# EAGLE library part L6234PD (library L6234)
The L6234 is a triple half bridge to drive a brushless DC motor
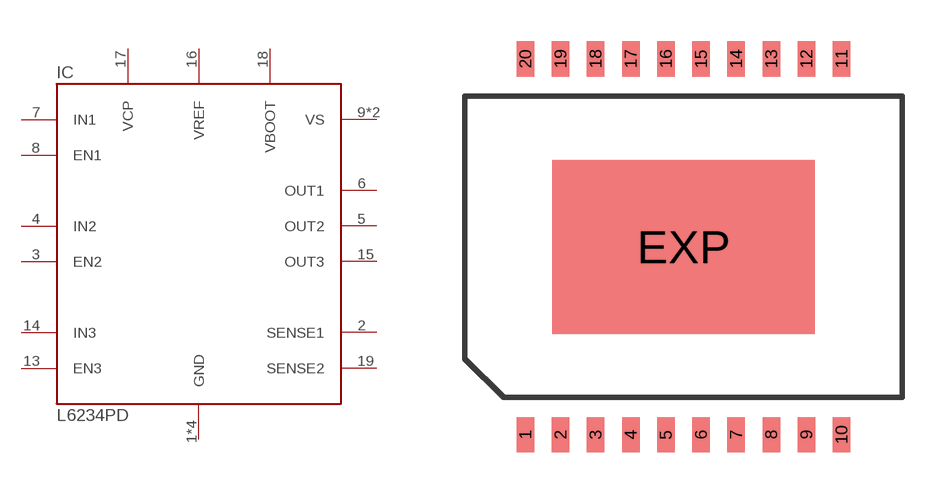
[diagram p0: symbol with the pads of POWER-SO20; footprint POWER-SO20]

Designator prefix IC

## L6234PD  [POWER-SO20]
1  GND
2  SENSE1
3  EN2
4  IN2
5  OUT2
6  OUT1
7  IN1
8  EN1
9  VS
10  GND
11  GND
12  VS
13  EN3
14  IN3
15  OUT3
16  VREF
17  VCP
18  VBOOT
19  SENSE2
20  GND

## Footprint POWER-SO20 (pad centres in mm)
PowerSO20
smd 0.635 x 1.27: 1 -5.715,-6.8; 2 -4.445,-6.8; 3 -3.175,-6.8; 4 -1.905,-6.8; 5 -0.635,-6.8; 6 0.635,-6.8; 7 1.905,-6.8; 8 3.175,-6.8; 9 4.445,-6.8; 10 5.715,-6.8; 11 5.715,6.8; 12 4.445,6.8; 13 3.175,6.8; 14 1.905,6.8; 15 0.635,6.8; 16 -0.635,6.8; 17 -1.905,6.8; 18 -3.175,6.8; 19 -4.445,6.8; 20 -5.715,6.8
smd 9.5 x 6.3: EXP 0,0